# EAGLE library part DUMMY-QFN28 (library all-chips)
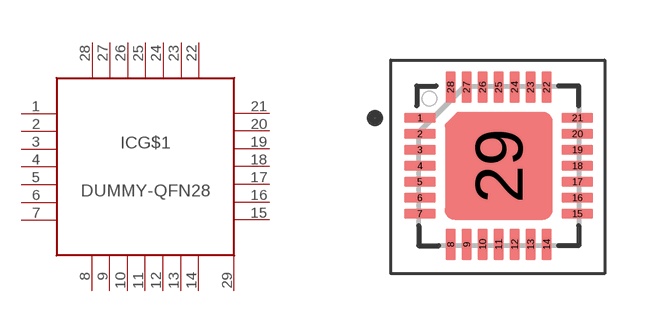
[diagram p35: symbol with the pads of QFN28_4.00X4.00MM; footprint QFN28_4.00X4.00MM]

Designator prefix IC; gates EP=PIN G$1=DUMMY_7-7-7-7

## DUMMY-QFN28  [QFN28_4.00X4.00MM]
1  G$1:1  pas
2  G$1:2  pas
3  G$1:3  pas
4  G$1:4  pas
5  G$1:5  pas
6  G$1:6  pas
7  G$1:7  pas
8  G$1:8  pas
9  G$1:9  pas
10  G$1:10  pas
11  G$1:11  pas
12  G$1:12  pas
13  G$1:13  pas
14  G$1:14  pas
15  G$1:15  pas
16  G$1:16  pas
17  G$1:17  pas
18  G$1:18  pas
19  G$1:19  pas
20  G$1:20  pas
21  G$1:21  pas
22  G$1:22  pas
23  G$1:23  pas
24  G$1:24  pas
25  G$1:25  pas
26  G$1:26  pas
27  G$1:27  pas
28  G$1:28  pas
29  EP:1  pas

## Footprint QFN28_4.00X4.00MM (pad centres in mm)
https://www.analog.com/media/en/package-pcb-resources/package/pkg_pdf/lfcspcp/cp-28/CP_28_9.pdf
smd 0.79 x 0.25: 1 -1.97,1.2; 2 -1.97,0.8; 3 -1.97,0.4; 4 -1.97,0; 5 -1.97,-0.4; 6 -1.97,-0.8; 7 -1.97,-1.2; 15 1.97,-1.2; 16 1.97,-0.8; 17 1.97,-0.4; 18 1.97,0; 19 1.97,0.4; 20 1.97,0.8; 21 1.97,1.2
smd 0.25 x 0.79: 8 -1.2,-1.97; 9 -0.8,-1.97; 10 -0.4,-1.97; 11 0,-1.97; 12 0.4,-1.97; 13 0.8,-1.97; 14 1.2,-1.97
smd 0.26 x 0.79: 22 1.2,1.97; 23 0.8,1.97; 24 0.4,1.97; 25 0,1.97; 26 -0.4,1.97; 27 -0.8,1.97; 28 -1.2,1.97
smd 2.15 x 2.15: 29 0,0